# EAGLE library part C8051F832 (library silabs-2)
8kB ILP Flash MCU Family Source: www.silabs.com .. C8051F33x.pdf
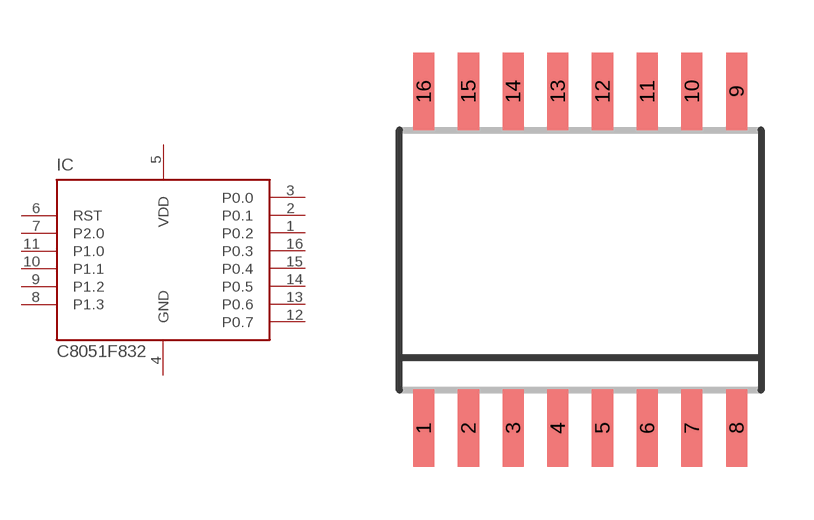
[diagram p14: symbol with the pads of SOIC16R; footprint SOIC16R]

Designator prefix IC

## C8051F832  [SOIC16R]
1  P0.2
2  P0.1
3  P0.0
4  GND
5  VDD
6  RST
7  P2.0
8  P1.3
9  P1.2
10  P1.1
11  P1.0
12  P0.7
13  P0.6
14  P0.5
15  P0.4
16  P0.3

## Footprint SOIC16R (pad centres in mm)
16-Lead SOIC (R) Package Source: http://www.analog.com/static/imported-files/data_sheets/AD745.pdf
smd 0.6 x 2.2: 1 -4.445,-4.775; 2 -3.175,-4.775; 3 -1.905,-4.775; 4 -0.635,-4.775; 5 0.635,-4.775; 6 1.905,-4.775; 7 3.175,-4.775; 8 4.445,-4.775; 9 4.445,4.8; 10 3.175,4.8; 11 1.905,4.8; 12 0.635,4.8; 13 -0.635,4.8; 14 -1.905,4.8; 15 -3.175,4.8; 16 -4.445,4.8